# Altium integrated library main.IntLib: 39 symbols
Pins are listed as number, name and electrical type; pins without a type are passive.

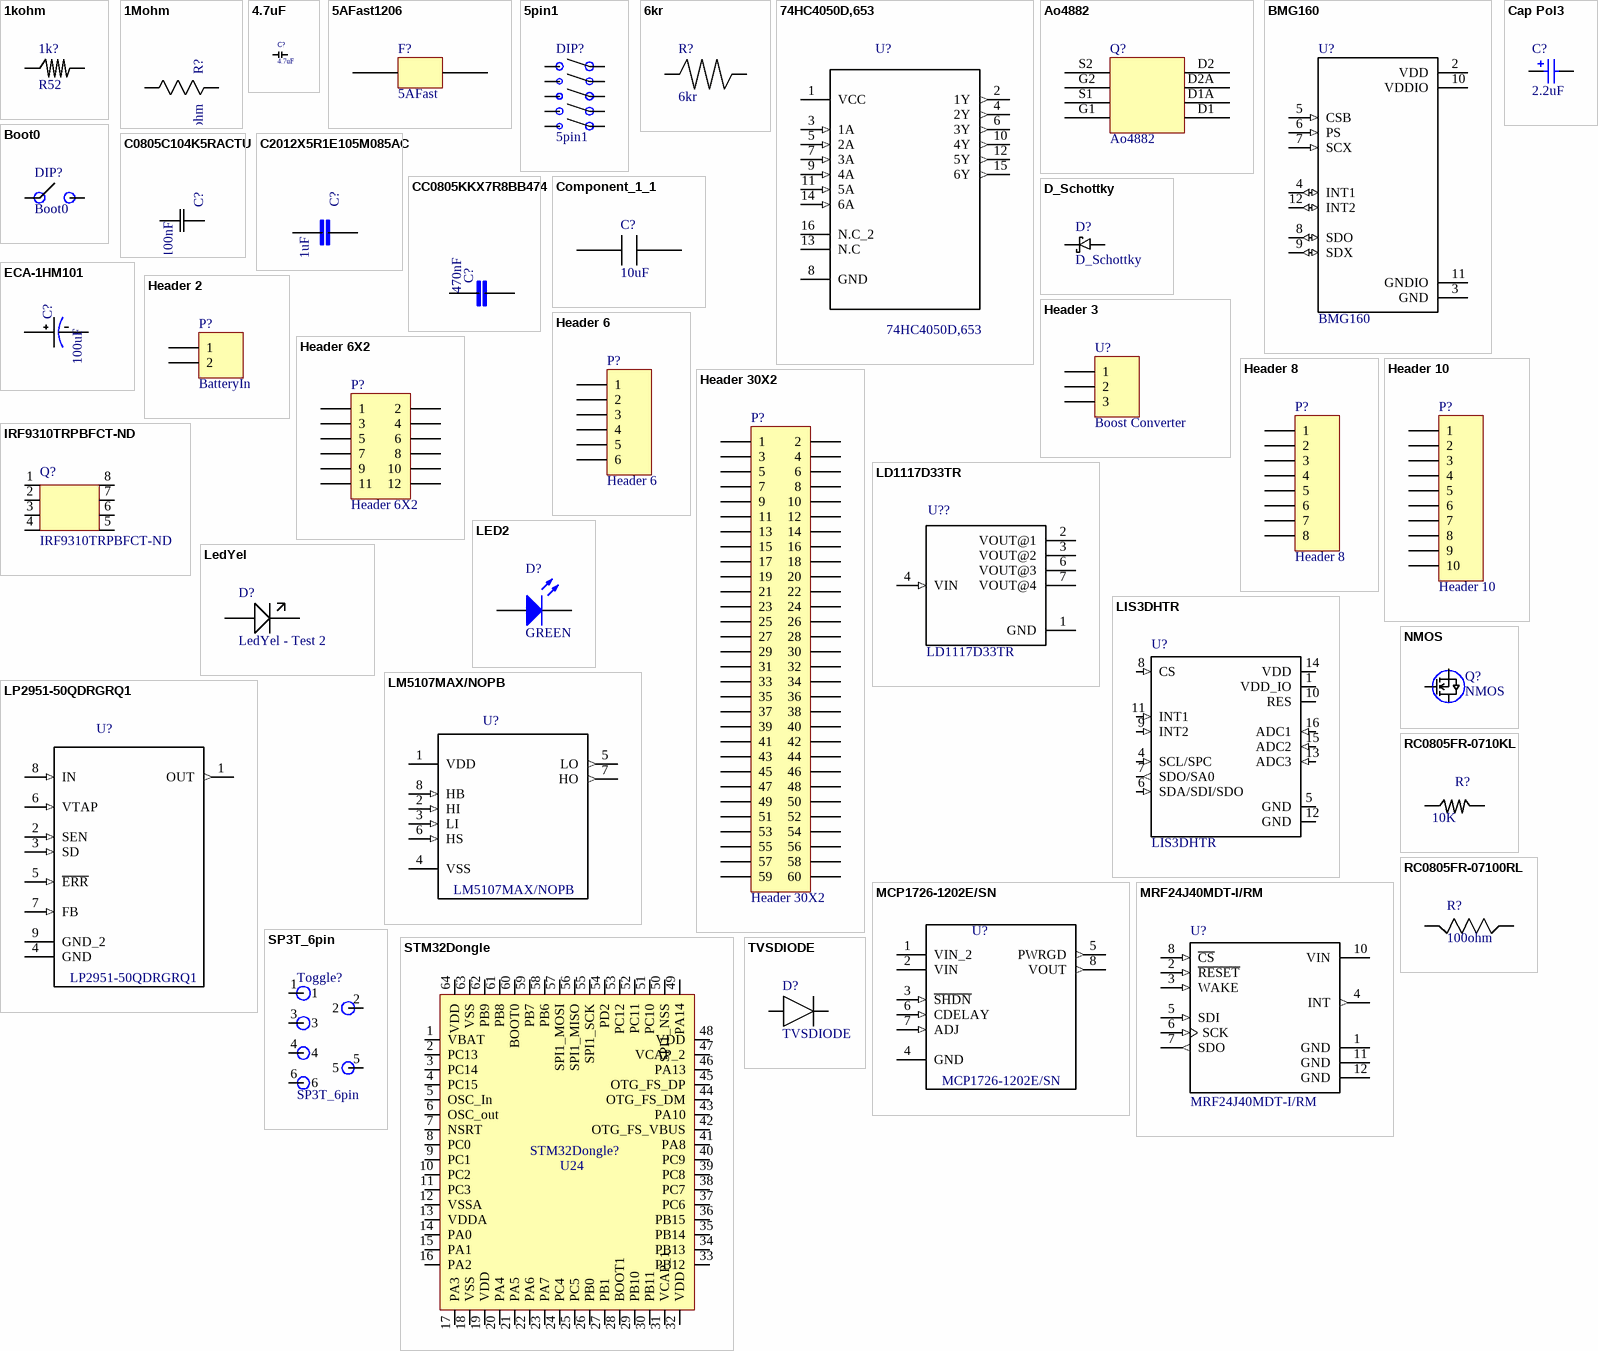
[diagram p0: symbols 1kohm to TVSDIODE]

## 1kohm
designator 1k?, comment R52
1276-5272-1-ND
footprint CAPC2012X140N
pins: 1, 2

## 1Mohm
designator R?
RES SMD 1M OHM 1% 1/8W 0805; MP: RC0805FR-071ML; MF: Yageo; Digi-Key_Purchase_URL: https://www.digikey.ca/product-detail/en/yageo/RC0805FR-071ML/311-1.00MCRCT-ND/730392?WT.z_cid=ref_snapeda&utm_source=snapeda&utm_medium=aggregator&utm_campaign=buynow; Digi-Key_Part_Number: 311-1.00MCRCT-ND; Package: 0805 Yageo; Value: *
footprint RESC2013X65N
pins: 1 R1, 2 R2

## 4.7uF
designator C?
footprint 0805
pins: P1, P2

## 5AFast1206
designator F?, comment 5AFast
footprint 1206
pins: Fusein In, Fuseout Out

## 5pin1
designator DIP?
footprint SOJ254P980X912-12M (SOJ, 12-Leads, Body 17.50x9.75mm, Pitch 2.54mm, IPC Low Density)
pins: 2, 3, 4, 5, 6, 7, 8, 9, 10, 11

## 6kr
designator R?
footprint CAPM2012X05N (Molded Capacitor, 2-Leads, Body 2.00x1.25mm, IPC Medium Density)
pins: 1, 2

## 74HC4050D,653
designator U?
74HC Series 6 V Surface Mount Hex High-to-Low Level Shifter - SOIC-16; MF: Nexperia; Package: SO-16 Nexperia; Digi-Key_Purchase_URL: https://www.digikey.ca/product-detail/en/nexperia-usa-inc/74HC4050D,653/1727-6331-1-ND/2762840?WT.z_cid=ref_snapeda&utm_source=snapeda&utm_medium=aggregator&utm_campaign=buynow; MP: 74HC4050D,653; SnapEDA_Link: https://www.snapeda.com/parts/74HC4050D%2C653/Nexperia/view-part/?ref=snap; Digi-Key_Part_Number: 1727-6331-1-ND; Value: *
footprint SOIC127P600X175-16N
pins: 1 VCC (power), 2 1Y (out), 3 1A (in), 4 2Y (out), 5 2A (in), 6 3Y (out), 7 3A (in), 8 GND, 9 4A (in), 10 4Y (out), 11 5A (in), 12 5Y (out), 13 N.C, 14 6A (in), 15 6Y (out), 16 N.C_2

## Ao4882
designator Q?
footprint SOIC127P490X600X175-8N
pins: D1 5, D1A 6, D2 8, D2A 7, G1 4, G2 2, S1 3, S2 1

## BMG160
designator U?
BMG160 Series 16 Bit 2000Â°/s 3-Axis Angular Rate Gyroscope Sensor 3 mm x 3 mm; MF: Bosch; MP: BMG160; Digi-Key_Purchase_URL: https://www.digikey.ca/product-detail/en/bosch-sensortec/BMG160/828-1042-1-ND/4196689?WT.z_cid=ref_snapeda; Package: VFLGA-12 Bosch; Digi-Key_Part_Number: 828-1042-1-ND; Value: *
footprint OFN50P300X300X100-12N
pins: 2 VDD (power), 3 GND, 4 INT1 (io), 5 CSB (in), 6 PS (in), 7 SCX (in), 8 SDO (io), 9 SDX (io), 10 VDDIO (power), 11 GNDIO, 12 INT2 (io)

## Boot0
designator DIP?
footprint SOJ254P980X912-12M (SOJ, 12-Leads, Body 17.50x9.75mm, Pitch 2.54mm, IPC Low Density)
pins: 1, 12

## C0805C104K5RACTU
designator C?, comment 100nF
Capacitor; Ceramic; Cap; .100UF ; Tol+-10%; SMD; Vol-Rtg 50V; X7R, Tape/Reel; MP: C0805C104K5RACTU; MF: Kemet; Package: 0805 Kemet; Value: *
footprint CAPC2013X110N
pins: 1 C1, 2 C2

## C2012X5R1E105M085AC
designator C?, comment 1uF
CAP CER 1UF 25V X5R 0805; MF: TDK; MP: C2012X5R1E105M085AC; Package: 0805 TDK; Value: *
footprint INDC2012X87N
pins: 1, 2

## Cap Pol3
designator C?, comment 2.2uF
CAP CER 2.2UF 25V X7R 0805; MF: Samsung Electro-Mechanics; MP: CL21B225KAFNNWE; DP: 1276-2955-1-ND; Tolerance: 10%; Distributor: Digikey; DL: https://www.digikey.ca/; Value: 2.2uF; Rating: 25V; Datasheet Link: http://www.samsungsem.com/kr/support/product-search/mlcc/__icsFiles/afieldfile/2018/07/24/CL21B225KAFNNWE.pdf; Package: 0805 (2012 Metric)
footprint C0805 (Chip Capacitor, Body 2.0x1.3mm, IPC High Density)
footprint 1812 (Chip Capacitor, Body 4.5x3.2mm, IPC High Density)
footprint 1825 (Chip Capacitor, Body 4.5x6.4mm, IPC High Density)
footprint C2225 (Chip Capacitor, Body 5.7x6.4mm, IPC High Density)
footprint 2220 (Chip Capacitor, Body 5.7x5.0mm, IPC High Density)
simulation model CAP (Capacitor)
signal-integrity model Cap Pol
pins: 1, 2
1 alternate drawing of the same symbol

## CC0805KKX7R8BB474
designator C?, comment 470nF
0805 0.47 uF 25 V Â±10 % Tolerance X7R SMT Multilayer Ceramic Capacitor; MF: Yageo; MP: CC0805KKX7R8BB474; Package: None; Value: *
footprint CAPC2012X70
pins: 1, 2

## Component_1_1
designator C?, comment 10uF
footprint CAPC3216X100N
pins: In, Out

## D_Schottky
designator D?
pins: 1, 2

## ECA-1HM101
designator C?, comment 100uF
CAP ALUM 100UF 20% 50V RADIAL; MF: Panasonic; MP: ECA-1HM101; Package: Radial Panasonic; Value: *
footprint 100uFCAPPRD350W60D800H1150B100uFECA-1HM101(Primary)
pins: NEG, POS

## Header 2
designator P?, comment BatteryIn
Header, 2-Pin; LatestRevisionDate: 17-Jul-2002; LatestRevisionNote: Re-released for DXP Platform.; Publisher: Altium Limited
footprint HDR1X2 (Connector; Header; 2 Position)
signal-integrity model Connector
pins: 1, 2

## Header 3
designator U?, comment Boost Converter
Header, 3-Pin; LatestRevisionDate: 17-Jul-2002; LatestRevisionNote: Re-released for DXP Platform.; Publisher: Altium Limited
footprint HDR1X3 (Connector; Header; 3 Position)
signal-integrity model Connector
pins: 1, 2, 3

## Header 6
designator P?
Header, 6-Pin; LatestRevisionDate: 17-Jul-2002; LatestRevisionNote: Re-released for DXP Platform.; Publisher: Altium Limited
footprint HDR1X6 (Connector; Header; 6 Position)
signal-integrity model Connector
pins: 1, 2, 3, 4, 5, 6

## Header 6X2
designator P?
Header, 6-Pin, Dual row; LatestRevisionDate: 17-Jul-2002; LatestRevisionNote: Re-released for DXP Platform.; Publisher: Altium Limited
footprint HDR2X6 (Connector; Header; 6x2 Position)
signal-integrity model Connector
pins: 1, 2, 3, 4, 5, 6, 7, 8, 9, 10, 11, 12

## Header 8
designator P?
Header, 8-Pin; LatestRevisionDate: 17-Jul-2002; LatestRevisionNote: Re-released for DXP Platform.; Publisher: Altium Limited
footprint HDR1X8 (Connector; Header; 8 Position)
signal-integrity model Connector
pins: 1, 2, 3, 4, 5, 6, 7, 8

## Header 10
designator P?
Header, 10-Pin; LatestRevisionDate: 17-Jul-2002; LatestRevisionNote: Re-released for DXP Platform.; Publisher: Altium Limited
footprint HDR1X10 (Connector; Header; 10 Position)
signal-integrity model Connector
pins: 1, 2, 3, 4, 5, 6, 7, 8, 9, 10

## Header 30X2
designator P?
Header, 30-Pin, Dual row; LatestRevisionDate: 17-Jul-2002; LatestRevisionNote: Re-released for DXP Platform.; Publisher: Altium Limited
footprint HDR2X30 (Connector; Header; 30x2 Position)
signal-integrity model Connector
pins: 1, 2, 3, 4, 5, 6, 7, 8, 9, 10, 11, 12, 13, 14, 15, 16, 17, 18, 19, 20, 21, 22, 23, 24, 25, 26, 27, 28, 29, 30, 31, 32, 33, 34, 35, 36, 37, 38, 39, 40, 41, 42, 43, 44, 45, 46, 47, 48, 49, 50, 51, 52, 53, 54, 55, 56, 57, 58, 59, 60

## IRF9310TRPBFCT-ND
designator Q?
footprint SOIC127P600X175-8N
pins: 1 S1, 2 S2, 3 S3, 4 G, 5 D5, 6 D6, 7 D7, 8 D8

## LD1117D33TR
designator U??
IC REG LINEAR 3.3V 800MA 8SO; MF: STMicroelectronics; Package: SO-8 STMicroelectronics; MP: LD1117D33TR; Value: *
footprint SOIC127P600X175-8N
pins: 1 GND (power), 2 VOUT@1, 3 VOUT@2, 4 VIN (in), 6 VOUT@3, 7 VOUT@4

## LED2
designator D?, comment GREEN
Typical RED, GREEN, YELLOW, AMBER GaAs LED; Published: 8-Jun-2000; LatestRevisionDate: 17-Jul-2002; LatestRevisionNote: Re-released for DXP Platform.; PackageVersion: Feb-2002; PackageReference: 3.2X1.6X1.1; Publisher: Altium Limited; PackageDescription: SM LED; 2 Flat Leads
footprint 3.2X1.6X1.1 (SMT LED; 2 Flat Leads)
simulation model LED2 (Diode)
pins: 1 A, 2 K

## LedYel
designator D?, comment LedYel - Test 2
footprint 1206
pins: P1 +, P2 -

## LIS3DHTR
designator U?
MEMS digital output motion sensor ultra low-power high performance 3-axes; MF: STMicroelectronics; Package: LGA-16 STMicroelectronics; MP: LIS3DHTR; Value: *
footprint LGA16R50P5X3_300X300X100N
pins: 1 VDD_IO (power), 4 SCL/SPC (in), 5 GND (power), 6 SDA/SDI/SDO (in), 7 SDO/SA0 (out), 8 CS (in), 9 INT2 (in), 10 RES (power), 11 INT1 (in), 12 GND (power), 13 ADC3 (in), 14 VDD (power), 15 ADC2 (in), 16 ADC1 (in)

## LM5107MAX/NOPB
designator U?
MOSFET DRVR 1.4A 2-OUT Hi/Lo Side Full Brdg/Half Brdg Non-Inv 8-Pin SOIC N T/R; MF: Texas Instruments; Digi-Key_Part_Number: LM5107MAX/NOPBCT-ND; MP: LM5107MAX/NOPB; Package: None; Digi-Key_Purchase_URL: https://www.digikey.ca/product-detail/en/texas-instruments/LM5107MAX-NOPB/LM5107MAX-NOPBCT-ND/3527005?WT.z_cid=ref_snapeda; Value: *
footprint SOIC127P620X175-8N
pins: 1 VDD (power), 2 HI (in), 3 LI (in), 4 VSS (power), 5 LO (out), 6 HS (in), 7 HO (out), 8 HB (in)

## LP2951-50QDRGRQ1
designator U?
IC REG LIN POS ADJ 100MA 8SON; MF: Texas Instruments; Package: SON-8 Texas Instruments; MP: LP2951-50QDRGRQ1; Value: *
footprint DFN400X400X80-9N
pins: 1 OUT (out), 2 SEN (in), 3 SD (in), 4 GND, 5 ~{ERR} (in), 6 VTAP (in), 7 FB (in), 8 IN (in), 9 GND_2

## MCP1726-1202E/SN
designator U?
IC REG LINEAR 1.2V 1A 8SOIC; MF: Microchip; Package: SOIC-8 Microchip; MP: MCP1726-1202E/SN; Value: *
footprint SOIC127P490X175-8N
pins: 1 VIN_2 (power), 2 VIN (power), 3 ~{SHDN} (in), 4 GND, 5 PWRGD (out), 6 CDELAY (in), 7 ADJ (in), 8 VOUT (out)

## MRF24J40MDT-I/RM
designator U?
2.4 GHz IEEE 802.15.4 Certified Transceiver Module (+20 dBm), 12 MODULE Varies T/R; MF: Microchip; MP: MRF24J40MDT-I/RM; Package: SMD-12 Microchip; Value: *
footprint XCVR_MRF24J40MDT-I/RM
pins: 1 GND (power), 2 ~{RESET} (in), 3 WAKE (in), 4 INT (out), 5 SDI (in), 6 SCK (in), 7 SDO (out), 8 ~{CS} (in), 10 VIN (power), 11 GND (power), 12 GND (power)

## NMOS
designator Q?
footprint SOT95P230X110-3N
pins: 1 Gate, 2 Source, 3 Drain

## RC0805FR-0710KL
designator R?, comment 10K
RES SMD 10K OHM 1% 1/8W 0805; MP: RC0805FR-0710KL; MF: Yageo; Package: 0805 Yageo; Value: *
footprint RESC2012X60
pins: 1, 2

## RC0805FR-07100RL
designator R?, comment 100ohm
RES SMD 100 OHM 1% 1/8W 0805; MP: RC0805FR-07100RL; MF: Yageo; Package: 0805 Yageo; Value: *
footprint RESC2012X60
pins: 1, 2

## SP3T_6pin
designator Toggle?
pins: 1, 2, 3, 4, 5, 6

## STM32Dongle
designator STM32Dongle?, comment U24
497-11907-ND; MF: STMicroelectronics; MP: STM32F415RGT6; Rating: 3.3V; DP: 497-11907-ND; Distributor: Digikey; Datasheet Link: https://www.st.com/content/ccc/resource/technical/document/datasheet/98/9f/89/73/01/b1/48/98/DM00035129.pdf/files/DM00035129.pdf/jcr:content/translations/en.DM00035129.pdf; DL: https://www.digikey.ca/; Package: 64-LQFP; Tolerance: N/A; Value: N/A
footprint QFP50P1200X1200X160-64N
pins: 1 VBAT, 2 PC13, 3 PC14, 4 PC15, 5 OSC_In, 6 OSC_out, 7 NSRT, 8 PC0, 9 PC1, 10 PC2, 11 PC3, 12 VSSA, 13 VDDA, 14 PA0, 15 PA1, 16 PA2, 17 PA3, 18 VSS, 19 VDD, 20 PA4, 21 PA5, 22 PA6, 23 PA7, 24 PC4, 25 PC5, 26 PB0, 27 PB1, 28 BOOT1, 29 PB10, 30 PB11, 31 VCAP_1, 32 VDD, 33 PB12, 34 PB13, 35 PB14, 36 PB15, 37 PC6, 38 PC7, 39 PC8, 40 PC9, 41 PA8, 42 OTG_FS_VBUS, 43 PA10, 44 OTG_FS_DM, 45 OTG_FS_DP, 46 PA13, 47 VCAP_2, 48 VDD, 49 PA14, 50 SPI1_NSS, 51 PC10, 52 PC11, 53 PC12, 54 PD2, 55 SPI1_SCK, 56 SPI1_MISO, 57 SPI1_MOSI, 58 PB6, 59 PB7, 60 BOOT0, 61 PB8, 62 PB9, 63 VSS, 64 VDD

## TVSDIODE
designator D?
footprint SODFL521X200-2N (SODFL, 2-Leads, Body 2.60x5.21mm, IPC Medium Density)
pins: 1, 1